# EAGLE library part TXS0104E (library JCM)
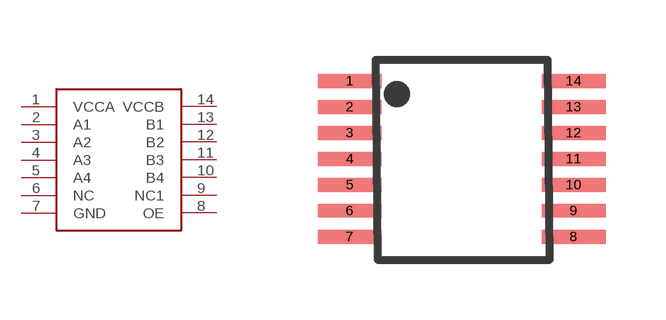
[diagram p7: symbol with the pads of TSSOP14; footprint TSSOP14]

Designator prefix -

## TXS0104E  [TSSOP14]
1  VCCA
2  A1
3  A2
4  A3
5  A4
6  NC
7  GND
8  OE
9  NC1
10  B4
11  B3
12  B2
13  B1
14  VCCB

## Footprint TSSOP14 (pad centres in mm)
Plastic Small Outline
smd 1.6 x 0.35: 1 -2.8,0.975; 2 -2.8,0.325; 3 -2.8,-0.325; 4 -2.8,-0.975; 5 -2.8,-1.625; 6 -2.8,-2.275; 7 -2.8,-2.925; 8 2.8,-2.925; 9 2.8,-2.275; 10 2.8,-1.625; 11 2.8,-0.975; 12 2.8,-0.325; 13 2.8,0.325; 14 2.8,0.975